# EAGLE library part MOLEX_53047-08 (library Airquality_Sensor)
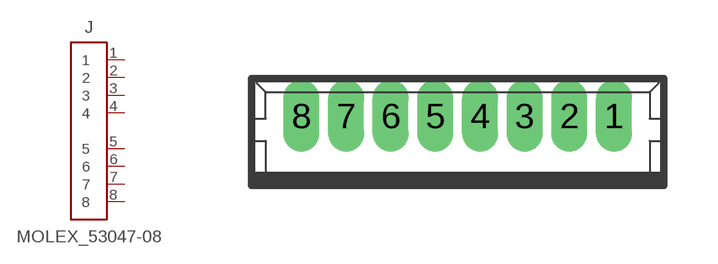
[diagram p3: symbol with the pads of 53047-08; footprint 53047-08]

Designator prefix J

## MOLEX_53047-08  [53047-08]
1  1
2  2
3  3
4  4
5  5
6  6
7  7
8  8

## Footprint 53047-08 (pad centres in mm)
CONNECTOR wire to board 1.25 mm (.049 inch) pitch header straight Sourcxe: http://www.molex.com/pdm_docs/sd/530470210_sd.pdf
drill 0.5 pad 0.698 long: 1 4.375,0.45; 2 3.125,0.45; 3 1.875,0.45; 4 0.625,0.45; 5 -0.625,0.45; 6 -1.875,0.45; 7 -3.125,0.45; 8 -4.375,0.45